# Altium schematic symbol library Schlib1.SchLib: 2 symbols
Pins are listed as number, name and electrical type; pins without a type are passive.

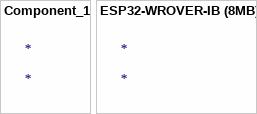
[diagram p0: symbols Component_1 to ESP32-WROVER-IB (8MB)]

## Component_1
designator *

## ESP32-WROVER-IB (8MB)
designator *
SMD Module, ESP32-D0WD, 64MBITS; Manufacturer: Espressif Systems; Manufacturer Part Number: ESP32-WROVER-IB (8MB); Supplier: DigiKey; Supplier Part Number: 1965-ESP32-WROVER-IB(8MB)TR-ND; Category: RF Transceiver Modules and Modems; Pricing: 650=5.1938, 1300=5.082 (USD)